# Altium footprint library PCB - LEADED - MISC - DIODES SM-8.PCBLIB: 1 footprints
Each footprint in its own frame and in the unit in brackets; x right, y up, seen from the top. Pads: shape width x height; smd on the part's side, far side on the other; paste and mask are expansions set on the pad; w line width, h text height; cw(c..) or ccw(c..) is an arc to the next point about the centre after c.
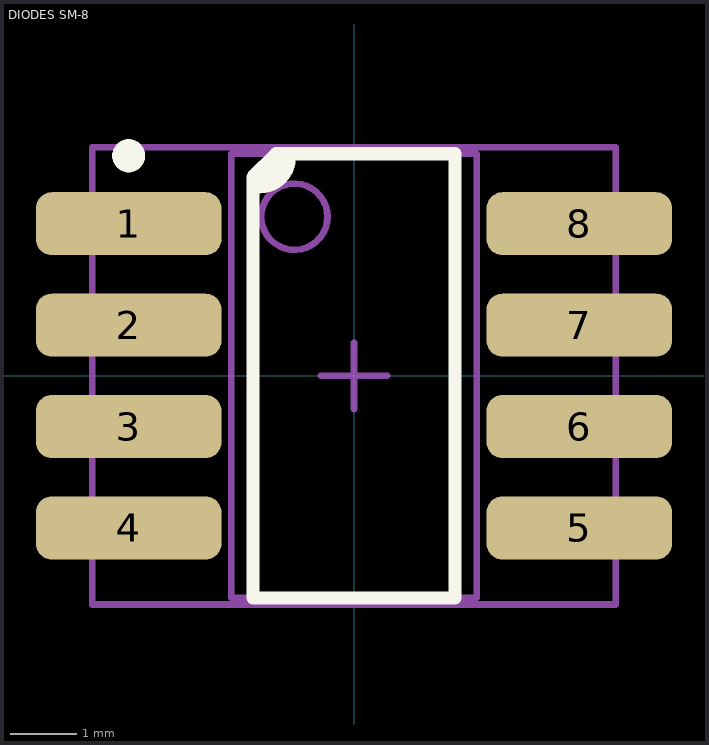
[diagram p0: the footprint, top view; thin cyan lines are the x and y axes]

## DIODES SM-8 [mm] "SOP, 8-Leads, Body 6.7x3.7mm (max), Pitch 1.53mm, IPC High Density"
height 1.7
pads (8):
  rrect50% 2.8x0.95 smd: 1(-3.4,2.295) 2(-3.4,0.765) 3(-3.4,-0.765) 4(-3.4,-2.295) 5(3.4,-2.295) 6(3.4,-0.765) 7(3.4,0.765) 8(3.4,2.295)
Top Overlay:
  circle w0.25: c-3.4,3.32 r0.125
  region: -1.325,3.2 -0.975,3.3 -0.975,3.15 -1.275,2.85 -1.475,2.85
  lines w0.2: -1.475,2.85 -1.425,2.85 ccw(c-1.425,3.3) -0.975,3.3 ; -1.525,-3.35 -1.525,3 -1.175,3.35 1.525,3.35 1.525,-3.35 -1.525,-3.35
Mechanical 13:
  circle w0.1: c-0.9,2.4 r0.5
  lines w0.1: -1.85,-3.35 -1.85,3.35 1.85,3.35 1.85,-3.35 -1.85,-3.35
Mechanical 15:
  lines w0.1: -0.5,0 0.5,0 ; 0,-0.5 0,0.5 ; -3.95,-3.45 -3.95,3.45 3.95,3.45 3.95,-3.45 -3.95,-3.45
3D body "SM8.STEP": height 1.7, standoff 0, extent -3.548,-3.25 3.549,3.25